# Altium footprint library IPC-SM-782 Section 9.1 SOIC.PcbLib: 16 footprints
Each footprint in its own frame and in the unit in brackets; x right, y up, seen from the top. Pads: shape width x height; smd on the part's side, far side on the other; paste and mask are expansions set on the pad; w line width, h text height; cw(c..) or ccw(c..) is an arc to the next point about the centre after c.
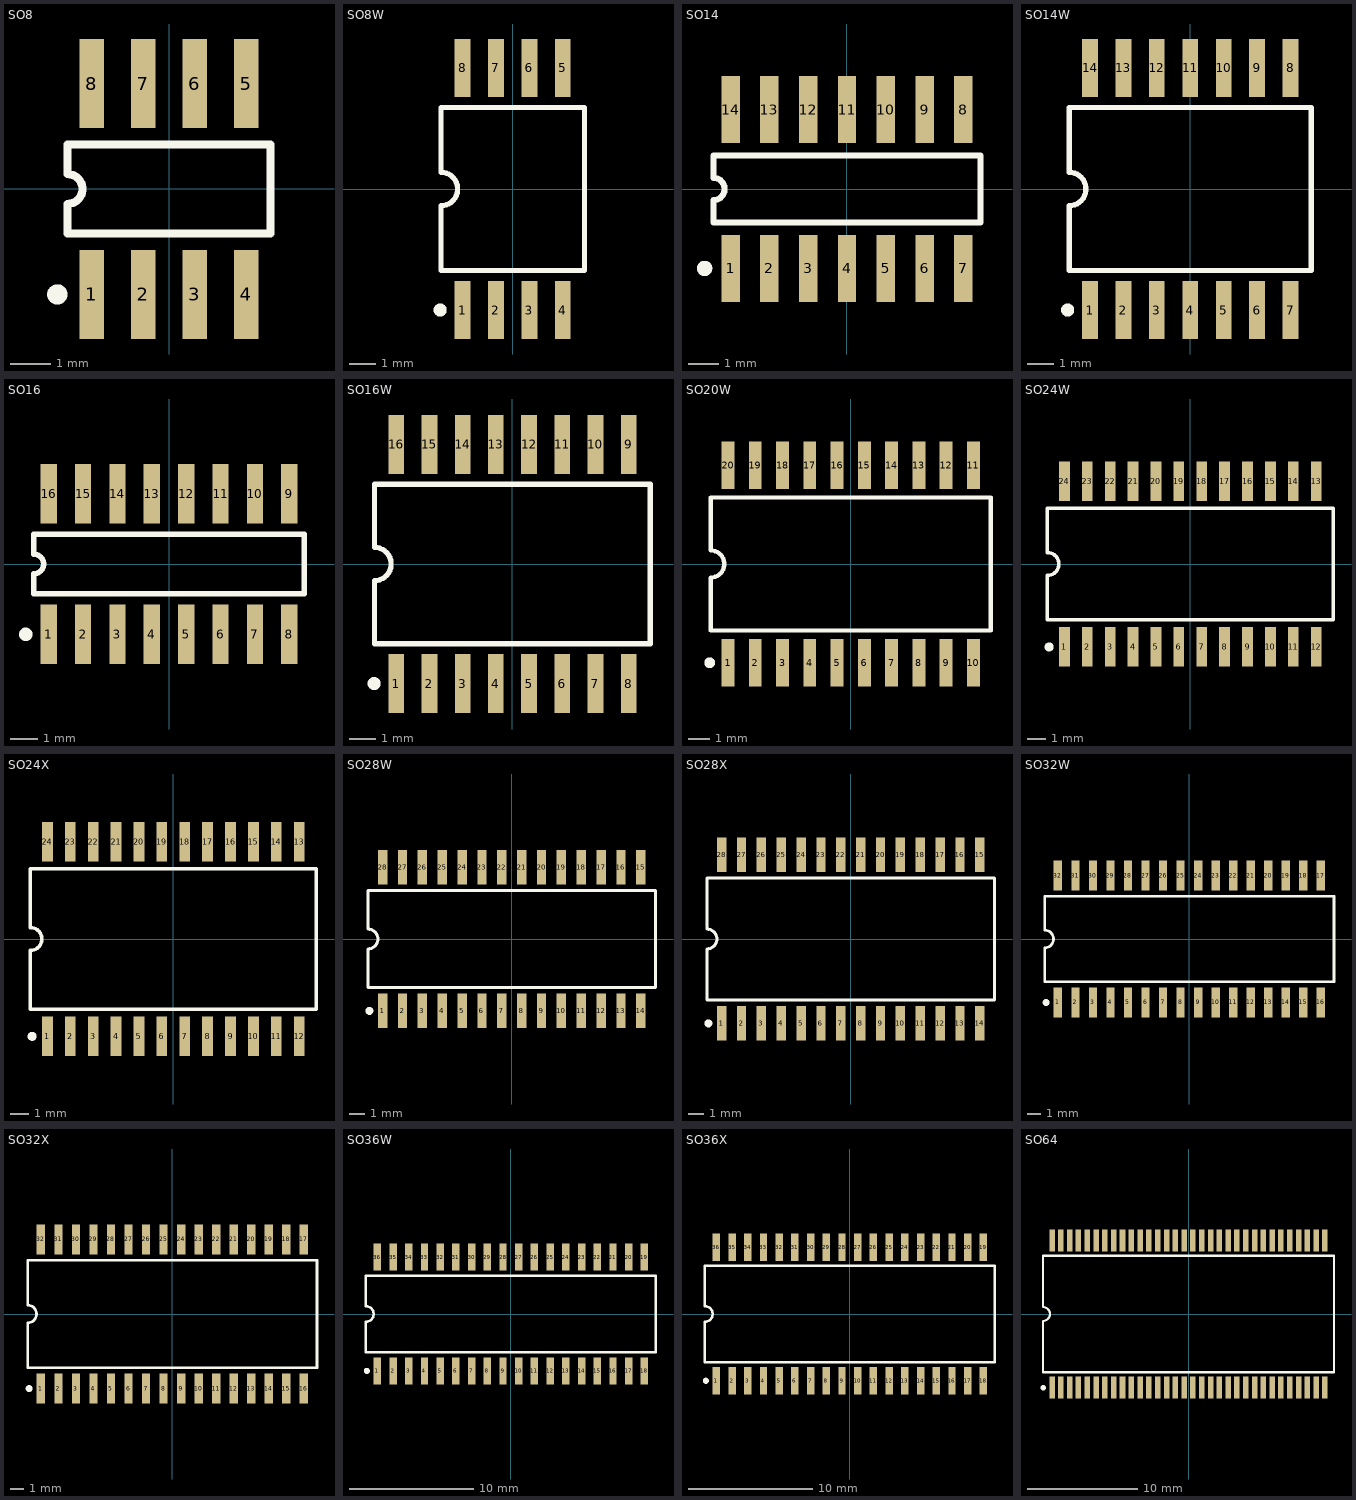
[diagram p0: the footprints below, top view; thin cyan lines are the x and y axes]

## SO8 [mm] "Small Outline; 8 Leads; Body Width 3.9 mm; Pitch 1.27 mm"
height 1.75
pads (8):
  rect 0.6x2.2 smd: 1(-1.905,-2.6) 2(-0.635,-2.6) 3(0.635,-2.6) 4(1.905,-2.6) 5(1.905,2.6) 6(0.635,2.6) 7(-0.635,2.6) 8(-1.905,2.6)
Top Overlay:
  circle w0.25: c-2.755,-2.6 r0.125
  lines w0.2: -2.5,-1.1 2.5,-1.1 2.5,1.1 -2.5,1.1 -2.5,0.367 cw(c-2.5,0) -2.5,-0.367 -2.5,-1.1

## SO8W [mm] "Small Outline; 8 Leads; Body Width 7.5 mm; Pitch 1.27 mm"
height 2.65
pads (8):
  rect 0.6x2.2 smd: 1(-1.905,-4.6) 2(-0.635,-4.6) 3(0.635,-4.6) 4(1.905,-4.6) 5(1.905,4.6) 6(0.635,4.6) 7(-0.635,4.6) 8(-1.905,4.6)
Top Overlay:
  circle w0.25: c-2.755,-4.6 r0.125
  lines w0.2: -2.725,-3.1 2.725,-3.1 2.725,3.1 -2.725,3.1 -2.725,0.635 cw(c-2.725,0) -2.725,-0.635 -2.725,-3.1

## SO14 [mm] "Small Outline; 14 Leads; Body Width 3.9 mm; Pitch 1.27 mm"
height 1.75
pads (14):
  rect 0.6x2.2 smd: 1(-3.81,-2.6) 2(-2.54,-2.6) 3(-1.27,-2.6) 4(0,-2.6) 5(1.27,-2.6) 6(2.54,-2.6) 7(3.81,-2.6) 8(3.81,2.6) 9(2.54,2.6) 10(1.27,2.6) 11(0,2.6) 12(-1.27,2.6) 13(-2.54,2.6) 14(-3.81,2.6)
Top Overlay:
  circle w0.25: c-4.66,-2.6 r0.125
  lines w0.2: -4.375,-1.1 -4.375,-0.367 ccw(c-4.375,0) -4.375,0.367 -4.375,1.1 4.375,1.1 4.375,-1.1 -4.375,-1.1

## SO14W [mm] "Small Outline; 14 Leads; Body Width 7.5 mm; Pitch 1.27 mm"
height 2.65
pads (14):
  rect 0.6x2.2 smd: 1(-3.81,-4.6) 2(-2.54,-4.6) 3(-1.27,-4.6) 4(0,-4.6) 5(1.27,-4.6) 6(2.54,-4.6) 7(3.81,-4.6) 8(3.81,4.6) 9(2.54,4.6) 10(1.27,4.6) 11(0,4.6) 12(-1.27,4.6) 13(-2.54,4.6) 14(-3.81,4.6)
Top Overlay:
  circle w0.25: c-4.66,-4.6 r0.125
  lines w0.2: -4.6,-3.1 -4.6,-0.635 ccw(c-4.6,0) -4.6,0.635 -4.6,3.1 4.6,3.1 4.6,-3.1 -4.6,-3.1

## SO16 [mm] "Small Outline; 16 Leads; Body Width 3.9 mm; Pitch 1.27 mm"
height 1.75
pads (16):
  rect 0.6x2.2 smd: 1(-4.445,-2.6) 2(-3.175,-2.6) 3(-1.905,-2.6) 4(-0.635,-2.6) 5(0.635,-2.6) 6(1.905,-2.6) 7(3.175,-2.6) 8(4.445,-2.6) 9(4.445,2.6) 10(3.175,2.6) 11(1.905,2.6) 12(0.635,2.6) 13(-0.635,2.6) 14(-1.905,2.6) 15(-3.175,2.6) 16(-4.445,2.6)
Top Overlay:
  circle w0.25: c-5.295,-2.6 r0.125
  lines w0.2: -5,-1.1 5,-1.1 5,1.1 -5,1.1 -5,0.367 cw(c-5,0) -5,-0.367 -5,-1.1

## SO16W [mm] "Small Outline; 16 Leads; Body Width 7.5 mm; Pitch 1.27 mm"
height 2.65
pads (16):
  rect 0.6x2.25 smd: 1(-4.445,-4.575) 2(-3.175,-4.575) 3(-1.905,-4.575) 4(-0.635,-4.575) 5(0.635,-4.575) 6(1.905,-4.575) 7(3.175,-4.575) 8(4.445,-4.575) 9(4.445,4.575) 10(3.175,4.575) 11(1.905,4.575) 12(0.635,4.575) 13(-0.635,4.575) 14(-1.905,4.575) 15(-3.175,4.575) 16(-4.445,4.575)
Top Overlay:
  circle w0.25: c-5.295,-4.575 r0.125
  lines w0.2: -5.275,-3.05 5.275,-3.05 5.275,3.05 -5.275,3.05 -5.275,0.635 cw(c-5.275,0) -5.275,-0.635 -5.275,-3.05

## SO20W [mm] "Small Outline; 20 Leads; Body Width 7.5 mm; Pitch 1.27 mm"
height 2.65
pads (20):
  rect 0.6x2.2 smd: 1(-5.715,-4.6) 2(-4.445,-4.6) 3(-3.175,-4.6) 4(-1.905,-4.6) 5(-0.635,-4.6) 6(0.635,-4.6) 7(1.905,-4.6) 8(3.175,-4.6) 9(4.445,-4.6) 10(5.715,-4.6) 11(5.715,4.6) 12(4.445,4.6) 13(3.175,4.6) 14(1.905,4.6) 15(0.635,4.6) 16(-0.635,4.6) 17(-1.905,4.6) 18(-3.175,4.6) 19(-4.445,4.6) 20(-5.715,4.6)
Top Overlay:
  circle w0.25: c-6.565,-4.6 r0.125
  lines w0.2: -6.525,-3.1 -6.525,-0.635 ccw(c-6.525,0) -6.525,0.635 -6.525,3.1 6.525,3.1 6.525,-3.1 -6.525,-3.1

## SO24W [mm] "Small Outline; 24 Leads; Body Width 7.5 mm; Pitch 1.27 mm"
height 2.64
pads (24):
  rect 0.6x2.2 smd: 1(-6.985,-4.6) 2(-5.715,-4.6) 3(-4.445,-4.6) 4(-3.175,-4.6) 5(-1.905,-4.6) 6(-0.635,-4.6) 7(0.635,-4.6) 8(1.905,-4.6) 9(3.175,-4.6) 10(4.445,-4.6) 11(5.715,-4.6) 12(6.985,-4.6) 13(6.985,4.6) 14(5.715,4.6) 15(4.445,4.6) 16(3.175,4.6) 17(1.905,4.6) 18(0.635,4.6) 19(-0.635,4.6) 20(-1.905,4.6) 21(-3.175,4.6) 22(-4.445,4.6) 23(-5.715,4.6) 24(-6.985,4.6)
Top Overlay:
  circle w0.25: c-7.835,-4.6 r0.125
  lines w0.2: -7.925,-3.1 -7.925,-0.635 ccw(c-7.925,0) -7.925,0.635 -7.925,3.1 7.925,3.1 7.925,-3.1 -7.925,-3.1

## SO24X [mm] "Small Outline; 24 Leads; Body Width 8.9 mm; Pitch 1.27 mm"
height 2.64
pads (24):
  rect 0.6x2.2 smd: 1(-6.985,-5.4) 2(-5.715,-5.4) 3(-4.445,-5.4) 4(-3.175,-5.4) 5(-1.905,-5.4) 6(-0.635,-5.4) 7(0.635,-5.4) 8(1.905,-5.4) 9(3.175,-5.4) 10(4.445,-5.4) 11(5.715,-5.4) 12(6.985,-5.4) 13(6.985,5.4) 14(5.715,5.4) 15(4.445,5.4) 16(3.175,5.4) 17(1.905,5.4) 18(0.635,5.4) 19(-0.635,5.4) 20(-1.905,5.4) 21(-3.175,5.4) 22(-4.445,5.4) 23(-5.715,5.4) 24(-6.985,5.4)
Top Overlay:
  circle w0.25: c-7.835,-5.4 r0.125
  lines w0.2: -7.925,-3.9 7.925,-3.9 7.925,3.9 -7.925,3.9 -7.925,0.635 cw(c-7.925,0) -7.925,-0.635 -7.925,-3.9

## SO28W [mm] "Small Outline; 28 Leads; Body Width 7.5 mm; Pitch 1.27 mm"
height 2.64
pads (28):
  rect 0.6x2.2 smd: 1(-8.255,-4.6) 2(-6.985,-4.6) 3(-5.715,-4.6) 4(-4.445,-4.6) 5(-3.175,-4.6) 6(-1.905,-4.6) 7(-0.635,-4.6) 8(0.635,-4.6) 9(1.905,-4.6) 10(3.175,-4.6) 11(4.445,-4.6) 12(5.715,-4.6) 13(6.985,-4.6) 14(8.255,-4.6) 15(8.255,4.6) 16(6.985,4.6) 17(5.715,4.6) 18(4.445,4.6) 19(3.175,4.6) 20(1.905,4.6) 21(0.635,4.6) 22(-0.635,4.6) 23(-1.905,4.6) 24(-3.175,4.6) 25(-4.445,4.6) 26(-5.715,4.6) 27(-6.985,4.6) 28(-8.255,4.6)
Top Overlay:
  circle w0.25: c-9.105,-4.6 r0.125
  lines w0.2: -9.2,-3.1 9.2,-3.1 9.2,3.1 -9.2,3.1 -9.2,0.635 cw(c-9.2,0) -9.2,-0.635 -9.2,-3.1

## SO28X [mm] "Small Outline; 28 Leads; Body Width 8.9 mm; Pitch 1.27 mm"
height 2.64
pads (28):
  rect 0.6x2.2 smd: 1(-8.255,-5.4) 2(-6.985,-5.4) 3(-5.715,-5.4) 4(-4.445,-5.4) 5(-3.175,-5.4) 6(-1.905,-5.4) 7(-0.635,-5.4) 8(0.635,-5.4) 9(1.905,-5.4) 10(3.175,-5.4) 11(4.445,-5.4) 12(5.715,-5.4) 13(6.985,-5.4) 14(8.255,-5.4) 15(8.255,5.4) 16(6.985,5.4) 17(5.715,5.4) 18(4.445,5.4) 19(3.175,5.4) 20(1.905,5.4) 21(0.635,5.4) 22(-0.635,5.4) 23(-1.905,5.4) 24(-3.175,5.4) 25(-4.445,5.4) 26(-5.715,5.4) 27(-6.985,5.4) 28(-8.255,5.4)
Top Overlay:
  circle w0.25: c-9.105,-5.4 r0.125
  lines w0.2: -9.2,-3.9 9.2,-3.9 9.2,3.9 -9.2,3.9 -9.2,0.635 cw(c-9.2,0) -9.2,-0.635 -9.2,-3.9

## SO32W [mm] "Small Outline; 32 Leads; Body Width 7.5 mm; Pitch 1.27 mm"
height 2.64
pads (32):
  rect 0.6x2.2 smd: 1(-9.525,-4.6) 2(-8.255,-4.6) 3(-6.985,-4.6) 4(-5.715,-4.6) 5(-4.445,-4.6) 6(-3.175,-4.6) 7(-1.905,-4.6) 8(-0.635,-4.6) 9(0.635,-4.6) 10(1.905,-4.6) 11(3.175,-4.6) 12(4.445,-4.6) 13(5.715,-4.6) 14(6.985,-4.6) 15(8.255,-4.6) 16(9.525,-4.6) 17(9.525,4.6) 18(8.255,4.6) 19(6.985,4.6) 20(5.715,4.6) 21(4.445,4.6) 22(3.175,4.6) 23(1.905,4.6) 24(0.635,4.6) 25(-0.635,4.6) 26(-1.905,4.6) 27(-3.175,4.6) 28(-4.445,4.6) 29(-5.715,4.6) 30(-6.985,4.6) 31(-8.255,4.6) 32(-9.525,4.6)
Top Overlay:
  circle w0.25: c-10.375,-4.6 r0.125
  lines w0.2: -10.475,-3.1 -10.475,-0.635 ccw(c-10.475,0) -10.475,0.635 -10.475,3.1 10.475,3.1 10.475,-3.1 -10.475,-3.1

## SO32X [mm] "Small Outline; 32 Leads; Body Width 8.9 mm; Pitch 1.27 mm"
height 2.64
pads (32):
  rect 0.6x2.2 smd: 1(-9.525,-5.4) 2(-8.255,-5.4) 3(-6.985,-5.4) 4(-5.715,-5.4) 5(-4.445,-5.4) 6(-3.175,-5.4) 7(-1.905,-5.4) 8(-0.635,-5.4) 9(0.635,-5.4) 10(1.905,-5.4) 11(3.175,-5.4) 12(4.445,-5.4) 13(5.715,-5.4) 14(6.985,-5.4) 15(8.255,-5.4) 16(9.525,-5.4) 17(9.525,5.4) 18(8.255,5.4) 19(6.985,5.4) 20(5.715,5.4) 21(4.445,5.4) 22(3.175,5.4) 23(1.905,5.4) 24(0.635,5.4) 25(-0.635,5.4) 26(-1.905,5.4) 27(-3.175,5.4) 28(-4.445,5.4) 29(-5.715,5.4) 30(-6.985,5.4) 31(-8.255,5.4) 32(-9.525,5.4)
Top Overlay:
  circle w0.25: c-10.375,-5.4 r0.125
  lines w0.2: -10.475,-3.9 10.475,-3.9 10.475,3.9 -10.475,3.9 -10.475,0.635 cw(c-10.475,0) -10.475,-0.635 -10.475,-3.9

## SO36W [mm] "Small Outline; 36 Leads; Body Width 7.5 mm; Pitch 1.27 mm"
height 2.64
pads (36):
  rect 0.6x2.2 smd: 1(-10.795,-4.6) 2(-9.525,-4.6) 3(-8.255,-4.6) 4(-6.985,-4.6) 5(-5.715,-4.6) 6(-4.445,-4.6) 7(-3.175,-4.6) 8(-1.905,-4.6) 9(-0.635,-4.6) 10(0.635,-4.6) 11(1.905,-4.6) 12(3.175,-4.6) 13(4.445,-4.6) 14(5.715,-4.6) 15(6.985,-4.6) 16(8.255,-4.6) 17(9.525,-4.6) 18(10.795,-4.6) 19(10.795,4.6) 20(9.525,4.6) 21(8.255,4.6) 22(6.985,4.6) 23(5.715,4.6) 24(4.445,4.6) 25(3.175,4.6) 26(1.905,4.6) 27(0.635,4.6) 28(-0.635,4.6) 29(-1.905,4.6) 30(-3.175,4.6) 31(-4.445,4.6) 32(-5.715,4.6) 33(-6.985,4.6) 34(-8.255,4.6) 35(-9.525,4.6) 36(-10.795,4.6)
Top Overlay:
  circle w0.25: c-11.645,-4.6 r0.125
  lines w0.2: -11.725,-3.1 11.725,-3.1 11.725,3.1 -11.725,3.1 -11.725,0.635 cw(c-11.725,0) -11.725,-0.635 -11.725,-3.1

## SO36X [mm] "Small Outline; 36 Leads; Body Width 8.9 mm; Pitch 1.27 mm"
height 2.64
pads (36):
  rect 0.6x2.2 smd: 1(-10.795,-5.4) 2(-9.525,-5.4) 3(-8.255,-5.4) 4(-6.985,-5.4) 5(-5.715,-5.4) 6(-4.445,-5.4) 7(-3.175,-5.4) 8(-1.905,-5.4) 9(-0.635,-5.4) 10(0.635,-5.4) 11(1.905,-5.4) 12(3.175,-5.4) 13(4.445,-5.4) 14(5.715,-5.4) 15(6.985,-5.4) 16(8.255,-5.4) 17(9.525,-5.4) 18(10.795,-5.4) 19(10.795,5.4) 20(9.525,5.4) 21(8.255,5.4) 22(6.985,5.4) 23(5.715,5.4) 24(4.445,5.4) 25(3.175,5.4) 26(1.905,5.4) 27(0.635,5.4) 28(-0.635,5.4) 29(-1.905,5.4) 30(-3.175,5.4) 31(-4.445,5.4) 32(-5.715,5.4) 33(-6.985,5.4) 34(-8.255,5.4) 35(-9.525,5.4) 36(-10.795,5.4)
Top Overlay:
  circle w0.25: c-11.645,-5.4 r0.125
  lines w0.2: -11.725,-3.9 11.725,-3.9 11.725,3.9 -11.725,3.9 -11.725,0.635 cw(c-11.725,0) -11.725,-0.635 -11.725,-3.9

## SO64 [mm] "Small Outline; 64 Leads; Body Width 12 mm; Pitch 0.8 mm"
height 2
pads (64):
  rect 0.5x2 smd: 1(-12.4,-6.7) 2(-11.6,-6.7) 3(-10.8,-6.7) 4(-10,-6.7) 5(-9.2,-6.7) 6(-8.4,-6.7) 7(-7.6,-6.7) 8(-6.8,-6.7) 9(-6,-6.7) 10(-5.2,-6.7) 11(-4.4,-6.7) 12(-3.6,-6.7) 13(-2.8,-6.7) 14(-2,-6.7) 15(-1.2,-6.7) 16(-0.4,-6.7) 17(0.4,-6.7) 18(1.2,-6.7) 19(2,-6.7) 20(2.8,-6.7) 21(3.6,-6.7) 22(4.4,-6.7) 23(5.2,-6.7) 24(6,-6.7) 25(6.8,-6.7) 26(7.6,-6.7) 27(8.4,-6.7) 28(9.2,-6.7) 29(10,-6.7) 30(10.8,-6.7) 31(11.6,-6.7) 32(12.4,-6.7) 33(12.4,6.7) 34(11.6,6.7) 35(10.8,6.7) 36(10,6.7) 37(9.2,6.7) 38(8.4,6.7) 39(7.6,6.7) 40(6.8,6.7) 41(6,6.7) 42(5.2,6.7) 43(4.4,6.7) 44(3.6,6.7) 45(2.8,6.7) 46(2,6.7) 47(1.2,6.7) 48(0.4,6.7) 49(-0.4,6.7) 50(-1.2,6.7) 51(-2,6.7) 52(-2.8,6.7) 53(-3.6,6.7) 54(-4.4,6.7) 55(-5.2,6.7) 56(-6,6.7) 57(-6.8,6.7) 58(-7.6,6.7) 59(-8.4,6.7) 60(-9.2,6.7) 61(-10,6.7) 62(-10.8,6.7) 63(-11.6,6.7) 64(-12.4,6.7)
Top Overlay:
  circle w0.25: c-13.2,-6.7 r0.125
  lines w0.2: -13.225,-5.3 -13.225,-0.635 ccw(c-13.225,0) -13.225,0.635 -13.225,5.3 13.225,5.3 13.225,-5.3 -13.225,-5.3